# EAGLE library part 93*76? (library microchip-6)
8K Microwire Compatible Serial EEPROM Source: http://ww1.microchip.com/downloads/en/DeviceDoc/21796H.pdf
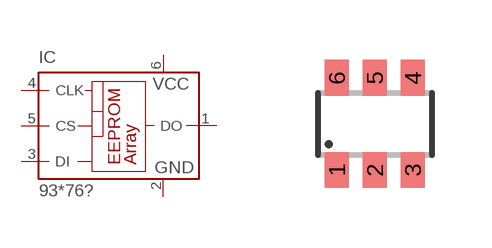
[diagram p72: symbol with the pads of SOT23-6; footprint SOT23-6]

Designator prefix IC

## 93AA76A, 93C76A, 93LC76A  [SOT23-6]
1  DO  hiz
2  GND  pwr
3  DI  in
4  CLK  in
5  CS  in
6  VCC  pwr

## 93AA76B, 93C76B, 93LC76B  [SOT23-6]
Pads as for SOT23-6

## Footprint SOT23-6 (pad centres in mm)
Small Outline Transistor 6 lead
smd 0.6 x 0.9: 1 -0.95,-1.15; 2 0,-1.15; 3 0.95,-1.15; 4 0.95,1.15; 5 0,1.15; 6 -0.95,1.15